# EAGLE library part MCP1501 (library v15)
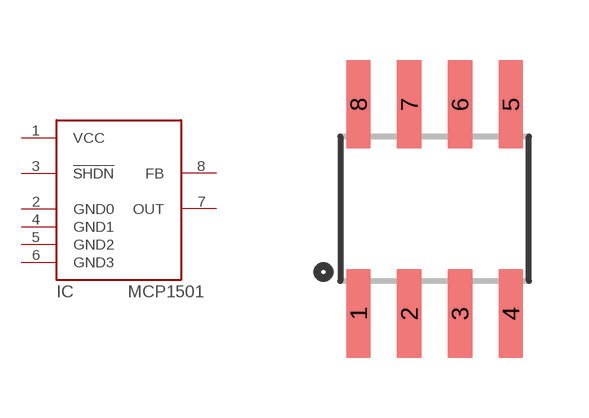
[diagram p7: symbol with the pads of SO08; footprint SO08]

Designator prefix IC

## MCP1501  [SO08]
1  VCC
2  GND0
3  !SHDN
4  GND1
5  GND2
6  GND3
7  OUT
8  FB

## Footprint SO08 (pad centres in mm)
Small Outline Package Fits JEDEC packages (narrow SOIC-8)
smd 0.61 x 2.21: 1 -1.905,-2.616; 2 -0.635,-2.616; 3 0.635,-2.616; 4 1.905,-2.616; 5 1.905,2.616; 6 0.635,2.616; 7 -0.635,2.616; 8 -1.905,2.616